# Altium footprint library M8 Minima.PcbLib: 4 footprints
Each footprint in its own frame and in the unit in brackets; x right, y up, seen from the top. Pads: shape width x height; smd on the part's side, far side on the other; paste and mask are expansions set on the pad; w line width, h text height; cw(c..) or ccw(c..) is an arc to the next point about the centre after c.
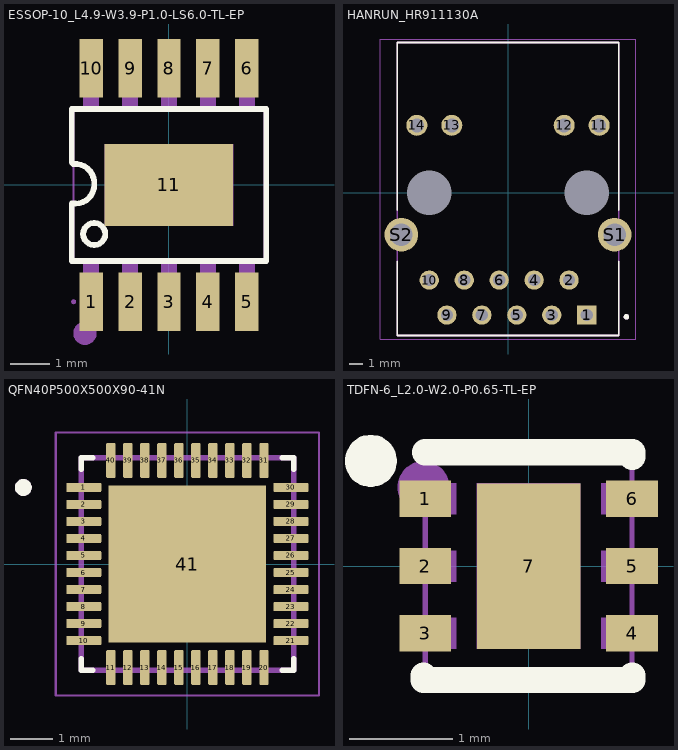
[diagram p0: the footprints below, top view; thin cyan lines are the x and y axes]

## ESSOP-10_L4.9-W3.9-P1.0-LS6.0-TL-EP [mm]
pads (11):
  rect 0.599x1.501 smd paste+0 mask+0.051: 1(-1.999,-3) 2(-0.998,-3) 3(0,-3) 4(1.001,-3) 5(2.002,-3) 6(2.002,3) 7(1.001,3) 8(0,3) 9(-0.998,3) 10(-1.999,3)
  rect 3.299x2.101 smd paste+0 mask+0.051: 11(0,0)
Top Overlay:
  lines w0.15: -2.499,-1.951 2.499,-1.951 2.499,1.951 -2.499,1.951 -2.499,0.82 -2.499,0.582 -2.459,0.541 -2.362,0.538 -2.268,0.521 -2.179,0.483 -2.098,0.429 -2.032,0.361 -1.976,0.279 -1.941,0.191 -1.92,0.097 -1.92,0 -1.928,-0.094 -1.956,-0.183 -2.002,-0.267 -2.06,-0.338 -2.134,-0.399 -2.215,-0.442 -2.306,-0.47 -2.4,-0.48 -2.499,-0.48 -2.499,-1.951 ; -2.205,-1.26 -2.195,-1.186 -2.167,-1.118 -2.121,-1.059 -2.062,-1.013 -1.994,-0.986 -1.92,-0.975 -1.847,-0.986 -1.778,-1.013 -1.72,-1.059 -1.674,-1.118 -1.646,-1.186 -1.636,-1.26 -1.646,-1.333 -1.674,-1.402 -1.72,-1.46 -1.778,-1.506 -1.847,-1.534 -1.92,-1.544 -1.994,-1.534 -2.062,-1.506 -2.121,-1.46 -2.167,-1.402 -2.195,-1.333 -2.205,-1.26
Mechanical 6:
  lines w0.3: -2.309,-3.81 -2.299,-3.759 -2.273,-3.713 -2.233,-3.68 -2.184,-3.663 -2.134,-3.663 -2.083,-3.68 -2.045,-3.713 -2.017,-3.759 -2.009,-3.81 -2.017,-3.861 -2.045,-3.907 -2.083,-3.94 -2.134,-3.957 -2.184,-3.957 -2.233,-3.94 -2.273,-3.907 -2.299,-3.861 -2.309,-3.81
Mechanical 7:
  lines w0.051: -2.449,-1.951 2.451,-1.951 2.451,1.951 -2.449,1.951 -2.449,-1.951
Mechanical 8:
  region: -2.39,-3 -2.4,-3.033 -2.426,-3.053 -2.459,-3.058 -2.489,-3.045 -2.507,-3.018 -2.507,-2.982 -2.489,-2.954 -2.459,-2.941 -2.426,-2.946 -2.4,-2.967
Mechanical 9:
  region: 1.651,-1.049 -1.648,-1.049 -1.648,1.052 1.651,1.052
  region: -2.2,2.38 -2.2,3 -1.798,3 -1.798,2.38
  region: -1.199,2.38 -1.199,3 -0.8,3 -0.8,2.38
  region: -0.201,2.38 -0.201,3 0.201,3 0.201,2.38
  region: 0.8,2.38 0.8,3 1.201,3 1.201,2.38
  region: 1.801,2.38 1.801,3 2.2,3 2.2,2.38
  region: 1.801,-3 1.801,-2.38 2.2,-2.38 2.2,-3
  region: 0.8,-3 0.8,-2.38 1.201,-2.38 1.201,-3
  region: -0.201,-3 -0.201,-2.38 0.201,-2.38 0.201,-3
  region: -1.199,-3 -1.199,-2.38 -0.8,-2.38 -0.8,-3
  region: -2.2,-3 -2.2,-2.38 -1.798,-2.38 -1.798,-3
Mechanical 10:
  region: -2.2,1.941 -2.2,2.39 -1.798,2.39 -1.798,1.941
  region: -1.199,1.941 -1.199,2.39 -0.8,2.39 -0.8,1.941
  region: -0.201,1.941 -0.201,2.39 0.201,2.39 0.201,1.941
  region: 0.8,1.941 0.8,2.39 1.201,2.39 1.201,1.941
  region: 1.801,1.941 1.801,2.39 2.2,2.39 2.2,1.941
  region: 1.801,-2.39 1.801,-1.941 2.2,-1.941 2.2,-2.39
  region: 0.8,-2.39 0.8,-1.941 1.201,-1.941 1.201,-2.39
  region: -0.201,-2.39 -0.201,-1.941 0.201,-1.941 0.201,-2.39
  region: -1.199,-2.39 -1.199,-1.941 -0.8,-1.941 -0.8,-2.39
  region: -2.2,-2.39 -2.2,-1.941 -1.798,-1.941 -1.798,-2.39
3D body "SSOP-10_L5.0-W3.9-P1.00-LS6.0-BL-EP~SSOP-10_L5.0-W3.9-P1.00-LS6.0-BL-EP~PRCe.step": height 1.8, standoff 0, extent -2.5,-3 2.5,3

## HANRUN_HR911130A [mm]
height 13.75
pads (18):
  rect 1.398x1.398 / inner round 1.398 / far side rect 1.398x1.398 hole 0.89: 1(5.72,-8.89)
  round 1.398 hole 0.89: 2(4.44,-6.35) 3(3.18,-8.89) 4(1.9,-6.35) 5(0.64,-8.89) 6(-0.64,-6.35) 7(-1.9,-8.89) 8(-3.18,-6.35) 9(-4.44,-8.89) 10(-5.72,-6.35)
  round 1.53 hole 1.02: 11(6.625,4.9) 12(4.085,4.9) 13(-4.085,4.9) 14(-6.625,4.9)
  round 2.445 hole 1.63: S1(7.745,-3.05) S2(-7.745,-3.05)
  round 0 hole 3.25 unplated: ""(-5.715,0) ""(5.715,0)
Top Overlay:
  circle w0.2: c8.607,-9.017 r0.1
  lines w0.127: -8.05,-5 -8.05,-10.38 8.05,-10.38 8.05,-5 ; -8.05,-1.25 -8.05,10.92 8.05,10.92 8.05,-1.25
Top 3D Body:
  circle w0.2: c8.607,-9.017 r0.1
  lines w0.127: -8.05,-10.38 -8.05,10.92 8.05,10.92 8.05,-10.38 -8.05,-10.38
Top Courtyard:
  lines w0.05: -9.277,-10.63 9.277,-10.63 9.277,11.17 -9.277,11.17 -9.277,-10.63
3D body "step_temp.STEP": height 13.5, standoff -3.05, extent -8.02,-10.4 8.02,10.9

## QFN40P500X500X90-41N [mm]
height 0.9
pads (41):
  rrect25% 0.82x0.22 smd: 1(-2.435,1.8) 2(-2.435,1.4) 3(-2.435,1) 4(-2.435,0.6) 5(-2.435,0.2) 6(-2.435,-0.2) 7(-2.435,-0.6) 8(-2.435,-1) 9(-2.435,-1.4) 10(-2.435,-1.8) 21(2.435,-1.8) 22(2.435,-1.4) 23(2.435,-1) 24(2.435,-0.6) 25(2.435,-0.2) 26(2.435,0.2) 27(2.435,0.6) 28(2.435,1) 29(2.435,1.4) 30(2.435,1.8)
  rrect25% 0.22x0.82 smd: 11(-1.8,-2.435) 12(-1.4,-2.435) 13(-1,-2.435) 14(-0.6,-2.435) 15(-0.2,-2.435) 16(0.2,-2.435) 17(0.6,-2.435) 18(1,-2.435) 19(1.4,-2.435) 20(1.8,-2.435) 31(1.8,2.435) 32(1.4,2.435) 33(1,2.435) 34(0.6,2.435) 35(0.2,2.435) 36(-0.2,2.435) 37(-0.6,2.435) 38(-1,2.435) 39(-1.4,2.435) 40(-1.8,2.435)
  rect 3.7x3.7 smd paste-3: 41(0,0)
Top Overlay:
  circle w0.2: c-3.86,1.8 r0.1
  lines w0.127: -2.5,-2.23 -2.5,-2.5 -2.23,-2.5 ; -2.5,2.23 -2.5,2.5 -2.23,2.5 ; 2.23,-2.5 2.5,-2.5 2.5,-2.23 ; 2.23,2.5 2.5,2.5 2.5,2.23
Top Paste:
  region: 1.395,-1.395 0.225,-1.395 0.225,-0.225 1.395,-0.225
  region: -0.225,-1.395 -1.395,-1.395 -1.395,-0.225 -0.225,-0.225
  region: 1.395,0.225 0.225,0.225 0.225,1.395 1.395,1.395
  region: -0.225,0.225 -1.395,0.225 -1.395,1.395 -0.225,1.395
Top 3D Body:
  circle w0.2: c-3.86,1.8 r0.1
  lines w0.127: -2.5,-2.5 2.5,-2.5 2.5,2.5 -2.5,2.5 -2.5,-2.5
Top Courtyard:
  lines w0.05: -3.095,-3.095 3.095,-3.095 3.095,3.095 -3.095,3.095 -3.095,-3.095
3D body "step_temp.STEP": height 0.9, standoff 0, extent -2.5,-2.5 2.5,2.5

## TDFN-6_L2.0-W2.0-P0.65-TL-EP [mil]
pads (7):
  rect 19.7x13.8 smd: 1(-39.3,25.6) 2(-39.3,0) 3(-39.3,-25.6) 4(39.4,-25.6) 5(39.4,0) 6(39.4,25.6)
  rect 39.4x63 smd: 7(0,0)
Top Overlay:
  lines w10: -40,-43.3 -40,-41.6 ; -39.4,-43.3 39.4,-43.3 39.4,-41.6 ; -39.4,43.3 39.4,43.3 39.4,41.6 ; -64.9,40 -64.5,41.9 -63.5,43.5 -61.9,44.6 -60,44.9 -58.1,44.6 -56.5,43.5 -55.4,41.9 -55.1,40 -55.4,38.1 -56.5,36.5 -58.1,35.5 -60,35.1 -61.9,35.5 -63.5,36.5 -64.5,38.1 -64.9,40
Mechanical 6:
  lines w10: -44.9,30 -44.5,31.9 -43.5,33.5 -41.9,34.6 -40,34.9 -38.1,34.6 -36.5,33.5 -35.4,31.9 -35.1,30 -35.4,28.1 -36.5,26.5 -38.1,25.5 -40,25.1 -41.9,25.5 -43.5,26.5 -44.5,28.1 -44.9,30
Mechanical 7:
  lines w2: -39.3,-39.4 -39.3,39.4 39.4,39.4 39.4,-39.4 -39.3,-39.4
Mechanical 8:
  region: -37,39.4 -37.4,38.1 -38.4,37.2 -39.7,37 -40.9,37.6 -41.6,38.7 -41.6,40 -40.9,41.2 -39.7,41.7 -38.4,41.5 -37.4,40.7
Mechanical 9:
  region: -27.5,-19.7 -27.5,-31.5 -39.3,-31.5 -39.3,-19.7
  region: -27.5,5.9 -27.5,-5.9 -39.3,-5.9 -39.3,5.9
  region: -27.5,31.5 -27.5,19.7 -39.3,19.7 -39.3,31.5
  region: 39.4,31.5 39.4,19.7 27.6,19.7 27.6,31.5
  region: 39.4,5.9 39.4,-5.9 27.6,-5.9 27.6,5.9
  region: 39.4,-19.7 39.4,-31.5 27.6,-31.5 27.6,-19.7
  region: 19.7,-31.5 -19.7,-31.5 -19.7,31.5 19.7,31.5